# Altium schematic symbol library microusb.SCHLIB: 1 symbol
Pins are listed as number, name and electrical type; pins without a type are passive.

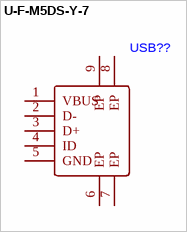
[diagram p0: symbol U-F-M5DS-Y-7]

## U-F-M5DS-Y-7
designator USB??
footprint MICRO-USB-SMD_MICRO-USB-A7
pins: 1 VBUS, 2 D-, 3 D+, 4 ID, 5 GND, 6 EP, 7 EP, 8 EP, 9 EP